# Altium schematic symbol library RY210005.SchLib: 1 symbol
Pins are listed as number, name and electrical type; pins without a type are passive.

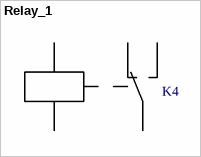
[diagram p0: symbol Relay_1]

## Relay_1
designator K4, comment Relay  (value not drawn)
footprint Relay RYII -3pin
pins: 1 A, 2 B, 11, 12, 14